# Altium schematic symbol library unspecified.SchLib: 1 symbol
Pins are listed as number, name and electrical type; pins without a type are passive.

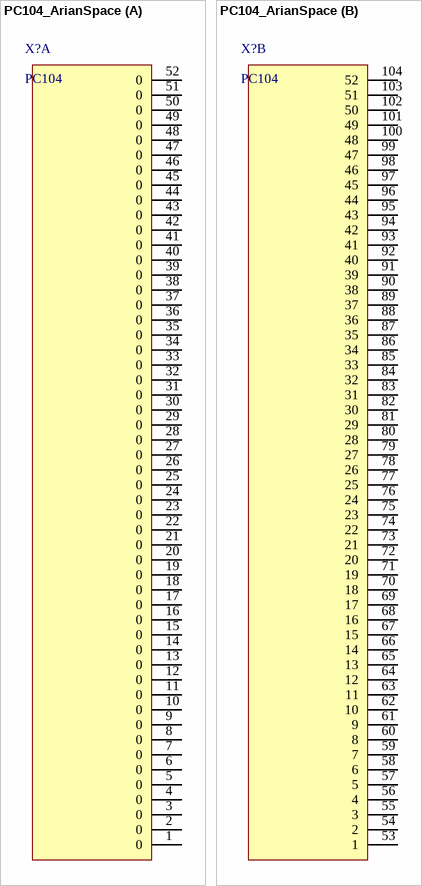
[diagram p0: symbol PC104_ArianSpace]

## PC104_ArianSpace
designator X?, comment PC104
PC104 connector
footprint PC104_ArianSpace
part A pins: 1 0, 2 0, 3 0, 4 0, 5 0, 6 0, 7 0, 8 0, 9 0, 10 0, 11 0, 12 0, 13 0, 14 0, 15 0, 16 0, 17 0, 18 0, 19 0, 20 0, 21 0, 22 0, 23 0, 24 0, 25 0, 26 0, 27 0, 28 0, 29 0, 30 0, 31 0, 32 0, 33 0, 34 0, 35 0, 36 0, 37 0, 38 0, 39 0, 40 0, 41 0, 42 0, 43 0, 44 0, 45 0, 46 0, 47 0, 48 0, 49 0, 50 0, 51 0, 52 0
part B pins: 53 1, 54 2, 55 3, 56 4, 57 5, 58 6, 59 7, 60 8, 61 9, 62 10, 63 11, 64 12, 65 13, 66 14, 67 15, 68 16, 69 17, 70 18, 71 19, 72 20, 73 21, 74 22, 75 23, 76 24, 77 25, 78 26, 79 27, 80 28, 81 29, 82 30, 83 31, 84 32, 85 33, 86 34, 87 35, 88 36, 89 37, 90 38, 91 39, 92 40, 93 41, 94 42, 95 43, 96 44, 97 45, 98 46, 99 47, 100 48, 101 49, 102 50, 103 51, 104 52